# Altium integrated library ECAP_Radial.IntLib: 3 symbols
Pins are listed as number, name and electrical type; pins without a type are passive.

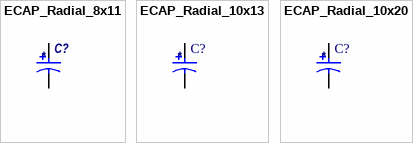
[diagram p0: symbols ECAP_Radial_8x11 to ECAP_Radial_10x20]

## ECAP_Radial_8x11
designator C?
Capacitance: *; Voltage: *
footprint ECAP_Radial_8x11
pins: 1, 2

## ECAP_Radial_10x13
designator C?
Capacitance: *; Voltage: *
footprint ECAP_Radial_10x13
pins: 1, 2

## ECAP_Radial_10x20
designator C?
Capacitance: *; Voltage: *
footprint ECAP_Radial_10x20
pins: 1, 2